# Altium schematic symbol library VTEC-logo.SchLib: 3 symbols
Pins are listed as number, name and electrical type; pins without a type are passive.

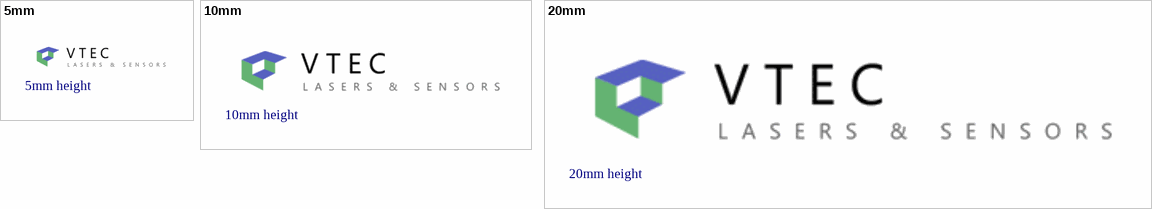
[diagram p0: symbols 5mm to 20mm]

## 5mm
designator ?, comment 5mm height
footprint 2.5mm (2.5mm height)
footprint 2.5mm-inv (2.5mm height, inverted graphics)
footprint 5mm (5mm height)
footprint 10mm (10mm hieght)
footprint 5MM-inv (5mm height, inverted graphics)
footprint 10MM-INV (10mm height, inverted graphics)

## 10mm
designator ?, comment 10mm height
footprint 2.5mm (2.5mm height)
footprint 2.5mm-inv (2.5mm height, inverted graphics)
footprint 5mm (5mm height)
footprint 10mm (10mm hieght)
footprint 5MM-inv (5mm height, inverted graphics)
footprint 10MM-INV (10mm height, inverted graphics)

## 20mm
designator ?, comment 20mm height
footprint 2.5mm (2.5mm height)
footprint 2.5mm-inv (2.5mm height, inverted graphics)
footprint 5mm (5mm height)
footprint 10mm (10mm hieght)
footprint 5MM-inv (5mm height, inverted graphics)
footprint 10MM-INV (10mm height, inverted graphics)